# Altium integrated library NSC Interface.IntLib: 481 symbols (part 13 of 16)
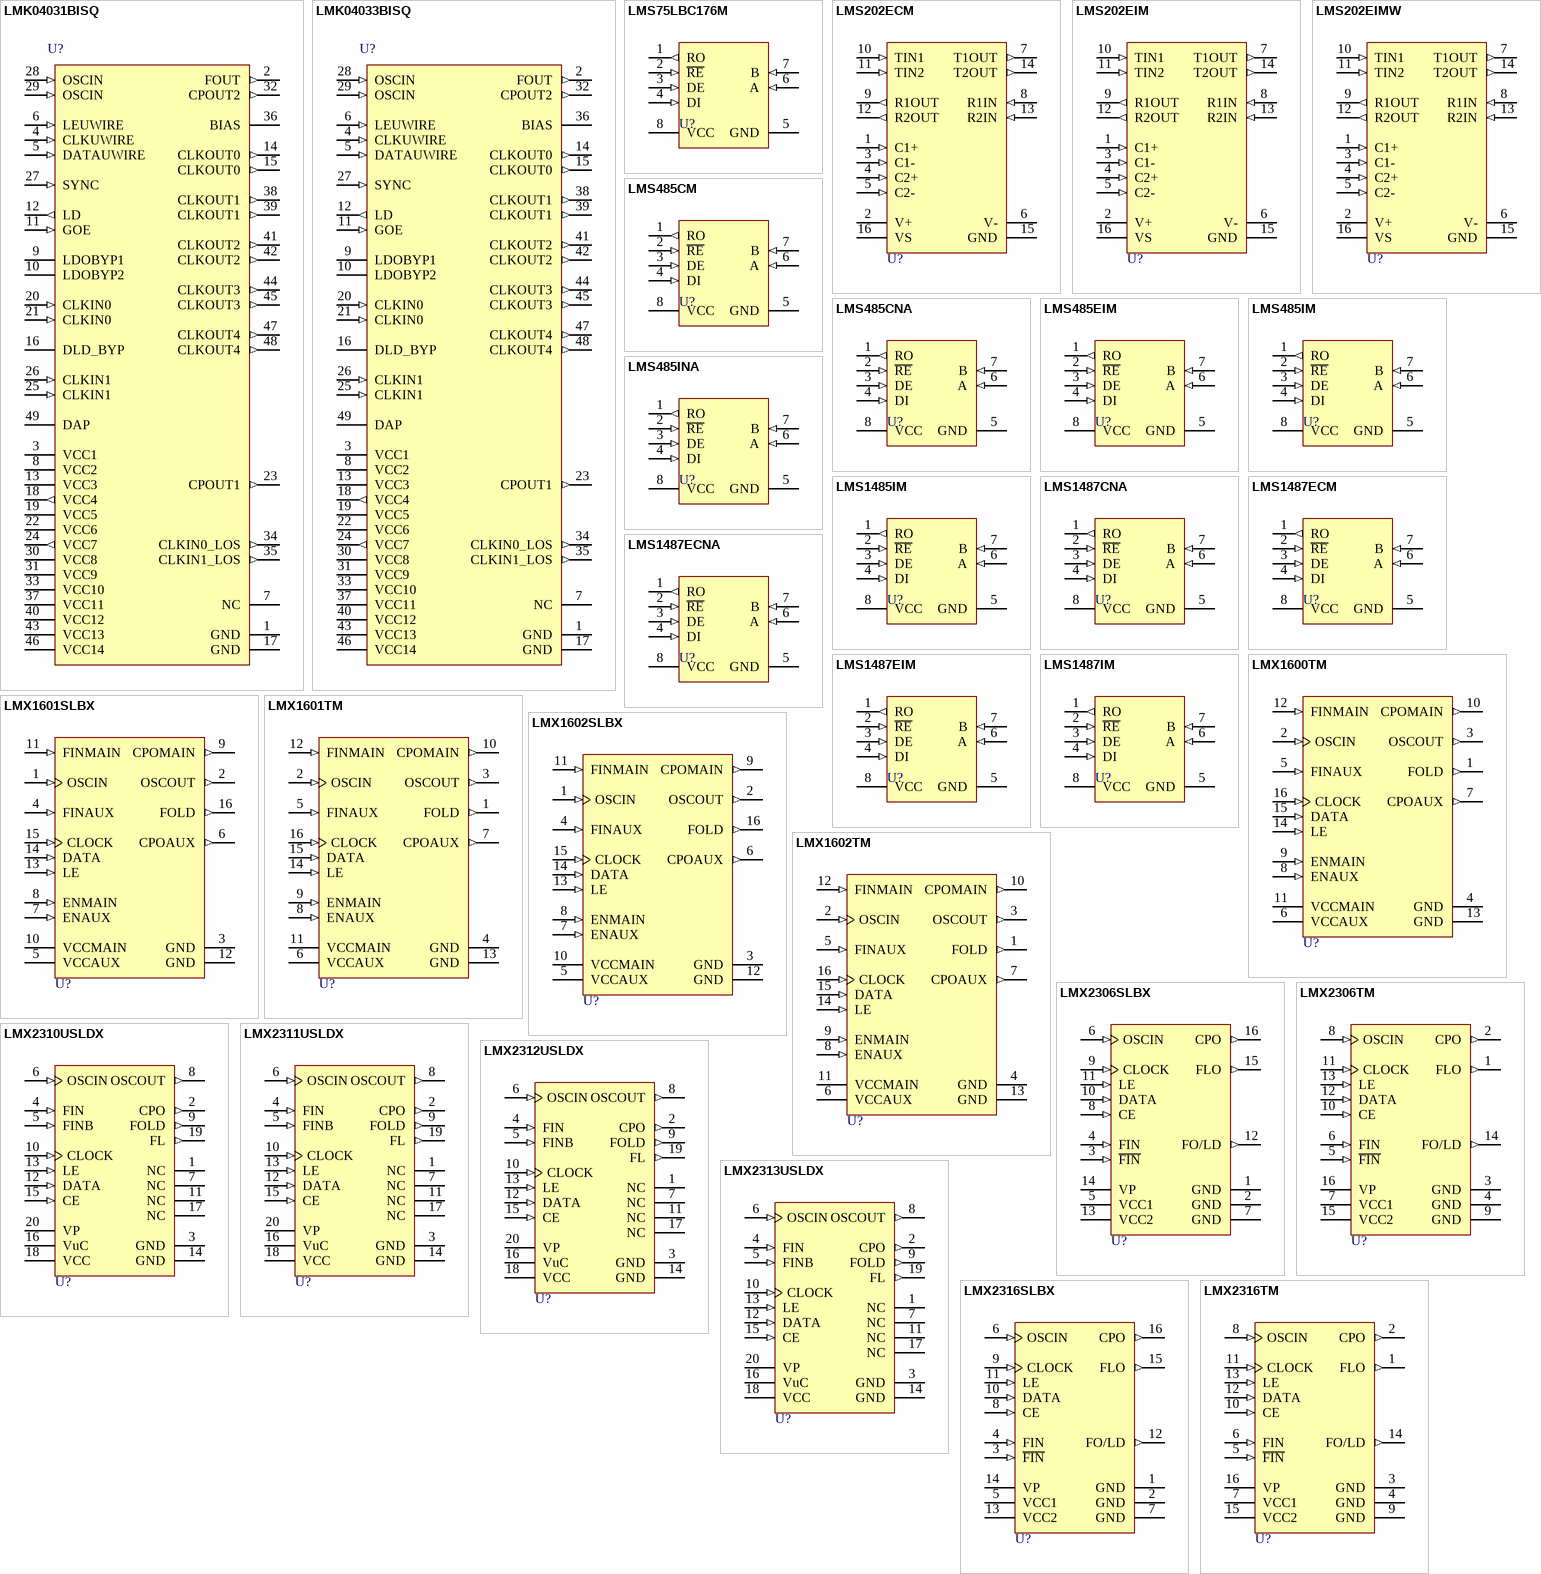
[diagram p52: symbols LMK04031BISQ to LMX2316TM]

## LMX1601SLBX
designator U?
1.1 GHz/500 MHz PLLatinum Low Cost Dual Frequency Synthesizer; PartNumber: LMX1601SLBX; Manufacturer: National Semiconductor; CompType: Interface IC; PackageTopMarking: NSXYTT*X1601*SLBDD; Published: 4-Dec-2008; DatasheetVersion: Jun-2005; PackageVersion: revB, Sep-1998; PackageReference: SLB16A; Publisher: Altium Limited; PackageDescription: CSP, Plastic, Laminated, 3.5 x 3.5 x 1.0mm Body, 16 Lead, 0.5mm Pitch; RoHS: O; PinCount: 16; DigiKeyPartNumber: LMX1601SLBXTR-ND; Code_JEDEC: MO-208-CCE; ComponentLink1Description: LMX1601 Datasheet; ComponentLink1URL: http://www.national.com/ds/LM/LMX1601.pdf; ComponentLink2Description: LMX1601 Web Page; ComponentLink2URL: http://www.national.com/pf/LM/LMX1601.html; ComponentLink3Description: SLB16A Package Page; ComponentLink3URL: http://www.national.com/packaging/folders/slb16a.html
footprint SLB16A (PQFN, 16-Leads, Body 3.5x3.5mm, Pitch 0.5mm, NSC Recommended)
pins: 1 OSCIN (in), 2 OSCOUT (out), 3 GND (power), 4 FINAUX (in), 5 VCCAUX (power), 6 CPOAUX (out), 7 ENAUX (in), 8 ENMAIN (in), 9 CPOMAIN (out), 10 VCCMAIN (power), 11 FINMAIN (in), 12 GND (power), 13 LE (in), 14 DATA (in), 15 CLOCK (in), 16 FOLD (out)

## LMX1601TM
designator U?
1.1 GHz/500 MHz PLLatinum Low Cost Dual Frequency Synthesizer; PartNumber: LMX1601TM; Manufacturer: National Semiconductor; CompType: Interface IC; PackageTopMarking: NSUZXYTT*LMX1601*TMDD; Published: 4-Dec-2008; DatasheetVersion: Jun-2005; PackageVersion: revD, Jun-2003; PackageReference: MTC16; Publisher: Altium Limited; PackageDescription: Molded TSSOP, Jedec, 5 x 4.4 x 0.9mm Body, 16 Lead, 0.65mm Pitch; RoHS: O; PinCount: 16; DigiKeyPartNumber: LMX1601TM-ND; Code_JEDEC: MO-153-AB; ComponentLink1Description: LMX1601 Datasheet; ComponentLink1URL: http://www.national.com/ds/LM/LMX1601.pdf; ComponentLink2Description: LMX1601 Web Page; ComponentLink2URL: http://www.national.com/pf/LM/LMX1601.html; ComponentLink3Description: MTC16 Package Page; ComponentLink3URL: http://www.national.com/packaging/folders/mtc16.html
footprint MTC16_N (TSOP, 16-Leads, Body 5x4.4mm, Pitch 0.65mm, IPC Medium Density)
footprint MTC16_L (TSOP, 16-Leads, Body 5x4.4mm, Pitch 0.65mm, IPC High Density)
footprint MTC16_M (TSOP, 16-Leads, Body 5x4.4mm, Pitch 0.65mm, IPC Low Density)
pins: 1 FOLD (out), 2 OSCIN (in), 3 OSCOUT (out), 4 GND (power), 5 FINAUX (in), 6 VCCAUX (power), 7 CPOAUX (out), 8 ENAUX (in), 9 ENMAIN (in), 10 CPOMAIN (out), 11 VCCMAIN (power), 12 FINMAIN (in), 13 GND (power), 14 LE (in), 15 DATA (in), 16 CLOCK (in)

## LMX1602SLBX
designator U?
1.1 GHz/1.1 GHz PLLatinum Low Cost Dual Frequency Synthesizer; PartNumber: LMX1602SLBX; Manufacturer: National Semiconductor; CompType: Interface IC; PackageTopMarking: NSXYTT*X1602*SLBDD; Published: 4-Dec-2008; DatasheetVersion: Jun-2005; PackageVersion: revB, Sep-1998; PackageReference: SLB16A; Publisher: Altium Limited; PackageDescription: CSP, Plastic, Laminated, 3.5 x 3.5 x 1.0mm Body, 16 Lead, 0.5mm Pitch; RoHS: O; PinCount: 16; DigiKeyPartNumber: LMX1602SLBX-ND; Code_JEDEC: MO-208-CCE; ComponentLink1Description: LMX1602 Datasheet; ComponentLink1URL: http://www.national.com/ds/LM/LMX1602.pdf; ComponentLink2Description: LMX1602 Web Page; ComponentLink2URL: http://www.national.com/pf/LM/LMX1602.html; ComponentLink3Description: SLB16A Package Page; ComponentLink3URL: http://www.national.com/packaging/folders/slb16a.html
footprint SLB16A (PQFN, 16-Leads, Body 3.5x3.5mm, Pitch 0.5mm, NSC Recommended)
pins: 1 OSCIN (in), 2 OSCOUT (out), 3 GND (power), 4 FINAUX (in), 5 VCCAUX (power), 6 CPOAUX (out), 7 ENAUX (in), 8 ENMAIN (in), 9 CPOMAIN (out), 10 VCCMAIN (power), 11 FINMAIN (in), 12 GND (power), 13 LE (in), 14 DATA (in), 15 CLOCK (in), 16 FOLD (out)

## LMX1602TM
designator U?
1.1 GHz/1.1 GHz PLLatinum Low Cost Dual Frequency Synthesizer; PartNumber: LMX1602TM; Manufacturer: National Semiconductor; CompType: Interface IC; PackageTopMarking: NSUZXYTT*LMX1602*TMDD; Published: 4-Dec-2008; DatasheetVersion: Jun-2005; PackageVersion: revD, Jun-2003; PackageReference: MTC16; Publisher: Altium Limited; PackageDescription: Molded TSSOP, Jedec, 5 x 4.4 x 0.9mm Body, 16 Lead, 0.65mm Pitch; RoHS: Y; PinCount: 16; DigiKeyPartNumber: LMX1602TM-ND; Code_JEDEC: MO-153-AB; ComponentLink1Description: LMX1602 Datasheet; ComponentLink1URL: http://www.national.com/ds/LM/LMX1602.pdf; ComponentLink2Description: LMX1602 Web Page; ComponentLink2URL: http://www.national.com/pf/LM/LMX1602.html; ComponentLink3Description: MTC16 Package Page; ComponentLink3URL: http://www.national.com/packaging/folders/mtc16.html
footprint MTC16_N (TSOP, 16-Leads, Body 5x4.4mm, Pitch 0.65mm, IPC Medium Density)
footprint MTC16_L (TSOP, 16-Leads, Body 5x4.4mm, Pitch 0.65mm, IPC High Density)
footprint MTC16_M (TSOP, 16-Leads, Body 5x4.4mm, Pitch 0.65mm, IPC Low Density)
pins: 1 FOLD (out), 2 OSCIN (in), 3 OSCOUT (out), 4 GND (power), 5 FINAUX (in), 6 VCCAUX (power), 7 CPOAUX (out), 8 ENAUX (in), 9 ENMAIN (in), 10 CPOMAIN (out), 11 VCCMAIN (power), 12 FINMAIN (in), 13 GND (power), 14 LE (in), 15 DATA (in), 16 CLOCK (in)

## LMX2306SLBX
designator U?
550 MHz PLLatinum Low Power Frequency Synthesizer for RF Personal Communications; PartNumber: LMX2306SLBX; Manufacturer: National Semiconductor; CompType: Interface IC; PackageTopMarking: NSXYTT*X2306*SLBDD; Published: 4-Dec-2008; DatasheetVersion: Mar-2004; PackageVersion: revB, Sep-1998; PackageReference: SLB16A; Publisher: Altium Limited; PackageDescription: CSP, Plastic, Laminated, 3.5 x 3.5 x 1.0mm Body, 16 Lead, 0.5mm Pitch; RoHS: O; PinCount: 16; DigiKeyPartNumber: LMX2306SLBXTR-ND; Code_JEDEC: MO-208-CCE; ComponentLink1Description: LMX2306 Datasheet; ComponentLink1URL: http://www.national.com/ds/LM/LMX2306.pdf; ComponentLink2Description: LMX2306 Web Page; ComponentLink2URL: http://www.national.com/pf/LM/LMX2306.html; ComponentLink3Description: SLB16A Package Page; ComponentLink3URL: http://www.national.com/packaging/folders/slb16a.html
footprint SLB16A (PQFN, 16-Leads, Body 3.5x3.5mm, Pitch 0.5mm, NSC Recommended)
pins: 1 GND (power), 2 GND (power), 3 ~{FIN} (in), 4 FIN (in), 5 VCC1 (power), 6 OSCIN (in), 7 GND (power), 8 CE (in), 9 CLOCK (in), 10 DATA (in), 11 LE (in), 12 FO/LD (out), 13 VCC2 (power), 14 VP (power), 15 FLO (out), 16 CPO (out)

## LMX2306TM
designator U?
550 MHz PLLatinum Low Power Frequency Synthesizer for RF Personal Communications; PartNumber: LMX2306TM; Manufacturer: National Semiconductor; CompType: Interface IC; PackageTopMarking: NSUZXYTT*LMX2306*TMDD; Published: 4-Dec-2008; DatasheetVersion: Mar-2004; PackageVersion: revD, Jun-2003; PackageReference: MTC16; Publisher: Altium Limited; PackageDescription: Molded TSSOP, Jedec, 5 x 4.4 x 0.9mm Body, 16 Lead, 0.65mm Pitch; RoHS: O; PinCount: 16; DigiKeyPartNumber: LMX2306TM-ND; Code_JEDEC: MO-153-AB; ComponentLink1Description: LMX2306 Datasheet; ComponentLink1URL: http://www.national.com/ds/LM/LMX2306.pdf; ComponentLink2Description: LMX2306 Web Page; ComponentLink2URL: http://www.national.com/pf/LM/LMX2306.html; ComponentLink3Description: MTC16 Package Page; ComponentLink3URL: http://www.national.com/packaging/folders/mtc16.html
footprint MTC16_N (TSOP, 16-Leads, Body 5x4.4mm, Pitch 0.65mm, IPC Medium Density)
footprint MTC16_L (TSOP, 16-Leads, Body 5x4.4mm, Pitch 0.65mm, IPC High Density)
footprint MTC16_M (TSOP, 16-Leads, Body 5x4.4mm, Pitch 0.65mm, IPC Low Density)
pins: 1 FLO (out), 2 CPO (out), 3 GND (power), 4 GND (power), 5 ~{FIN} (in), 6 FIN (in), 7 VCC1 (power), 8 OSCIN (in), 9 GND (power), 10 CE (in), 11 CLOCK (in), 12 DATA (in), 13 LE (in), 14 FO/LD (out), 15 VCC2 (power), 16 VP (power)

## LMX2310USLDX
designator U?
2.5 GHz PLLatinum Ultra Low Power Frequency Synthesizer for RF Personal Communications; PartNumber: LMX2310USLDX; Manufacturer: National Semiconductor; CompType: Interface IC; PackageTopMarking: NSXYTT*X2310U*SLDDD; Published: 4-Dec-2008; DatasheetVersion: Dec-2003; PackageVersion: revA, Jun-2001; PackageReference: SLD20A; Publisher: Altium Limited; PackageDescription: Thin CSP, Plastic, Laminated, 3.5 x 3.5 x 0.8mm Body, 20 Lead, .5mm Pitch; RoHS: Y; PinCount: 20; DigiKeyPartNumber: LMX2310USLDXTR-ND; Code_JEDEC: MO-208-CCEA-1; ComponentLink1Description: LMX2310U Datasheet; ComponentLink1URL: http://www.national.com/ds/LM/LMX2310U.pdf; ComponentLink2Description: LMX2310U Web Page; ComponentLink2URL: http://www.national.com/pf/LM/LMX2310U.html; ComponentLink3Description: SLD20A Package Page; ComponentLink3URL: http://www.national.com/packaging/folders/sld20a.html
footprint SLD20A (PQFN, 20-Leads, Body 3.5x3.5mm, Pitch 0.5mm, NSC Recommended)
pins: 1 NC, 2 CPO (out), 3 GND (power), 4 FIN (in), 5 FINB (in), 6 OSCIN (in), 7 NC, 8 OSCOUT (out), 9 FOLD (out), 10 CLOCK (in), 11 NC, 12 DATA (in), 13 LE (in), 14 GND (power), 15 CE (in), 16 VuC (power), 17 NC, 18 VCC (power), 19 FL (out), 20 VP (power)

## LMX2311USLDX
designator U?
2.0 GHz PLLatinum Ultra Low Power Frequency Synthesizer for RF Personal Communications; PartNumber: LMX2311USLDX; Manufacturer: National Semiconductor; CompType: Interface IC; PackageTopMarking: NSXYTT*X2311U*SLDDD; Published: 4-Dec-2008; DatasheetVersion: Dec-2003; PackageVersion: revA, Jun-2001; PackageReference: SLD20A; Publisher: Altium Limited; PackageDescription: Thin CSP, Plastic, Laminated, 3.5 x 3.5 x 0.8mm Body, 20 Lead, .5mm Pitch; RoHS: O; PinCount: 20; DigiKeyPartNumber: LMX2311USLDXTR-ND; Code_JEDEC: MO-208-CCEA-1; ComponentLink1Description: LMX2311U Datasheet; ComponentLink1URL: http://www.national.com/ds/LM/LMX2311U.pdf; ComponentLink2Description: LMX2311U Web Page; ComponentLink2URL: http://www.national.com/pf/LM/LMX2311U.html; ComponentLink3Description: SLD20A Package Page; ComponentLink3URL: http://www.national.com/packaging/folders/sld20a.html
footprint SLD20A (PQFN, 20-Leads, Body 3.5x3.5mm, Pitch 0.5mm, NSC Recommended)
pins: 1 NC, 2 CPO (out), 3 GND (power), 4 FIN (in), 5 FINB (in), 6 OSCIN (in), 7 NC, 8 OSCOUT (out), 9 FOLD (out), 10 CLOCK (in), 11 NC, 12 DATA (in), 13 LE (in), 14 GND (power), 15 CE (in), 16 VuC (power), 17 NC, 18 VCC (power), 19 FL (out), 20 VP (power)

## LMX2312USLDX
designator U?
1.2 GHz PLLatinum Ultra Low Power Frequency Synthesizer for RF Personal Communications; PartNumber: LMX2312USLDX; Manufacturer: National Semiconductor; CompType: Interface IC; PackageTopMarking: NSXYTT*X2312U*SLDDD; Published: 4-Dec-2008; DatasheetVersion: Dec-2003; PackageVersion: revA, Jun-2001; PackageReference: SLD20A; Publisher: Altium Limited; PackageDescription: Thin CSP, Plastic, Laminated, 3.5 x 3.5 x 0.8mm Body, 20 Lead, .5mm Pitch; RoHS: O; PinCount: 20; DigiKeyPartNumber: LMX2312USLDXTR-ND; Code_JEDEC: MO-208-CCEA-1; ComponentLink1Description: LMX2312U Datasheet; ComponentLink1URL: http://www.national.com/ds/LM/LMX2312U.pdf; ComponentLink2Description: LMX2312U Web Page; ComponentLink2URL: http://www.national.com/pf/LM/LMX2312U.html; ComponentLink3Description: SLD20A Package Page; ComponentLink3URL: http://www.national.com/packaging/folders/sld20a.html
footprint SLD20A (PQFN, 20-Leads, Body 3.5x3.5mm, Pitch 0.5mm, NSC Recommended)
pins: 1 NC, 2 CPO (out), 3 GND (power), 4 FIN (in), 5 FINB (in), 6 OSCIN (in), 7 NC, 8 OSCOUT (out), 9 FOLD (out), 10 CLOCK (in), 11 NC, 12 DATA (in), 13 LE (in), 14 GND (power), 15 CE (in), 16 VuC (power), 17 NC, 18 VCC (power), 19 FL (out), 20 VP (power)

## LMX2313USLDX
designator U?
600 MHz PLLatinum Ultra Low Power Frequency Synthesizer for RF Personal Communications; PartNumber: LMX2313USLDX; Manufacturer: National Semiconductor; CompType: Interface IC; PackageTopMarking: NSXYTT*X2313U*SLDDD; Published: 4-Dec-2008; DatasheetVersion: Dec-2003; PackageVersion: revA, Jun-2001; PackageReference: SLD20A; Publisher: Altium Limited; PackageDescription: Thin CSP, Plastic, Laminated, 3.5 x 3.5 x 0.8mm Body, 20 Lead, .5mm Pitch; RoHS: O; PinCount: 20; DigiKeyPartNumber: LMX2313USLDXTR-ND; Code_JEDEC: MO-208-CCEA-1; ComponentLink1Description: LMX2313U Datasheet; ComponentLink1URL: http://www.national.com/ds/LM/LMX2313U.pdf; ComponentLink2Description: LMX2313U Web Page; ComponentLink2URL: http://www.national.com/pf/LM/LMX2313U.html; ComponentLink3Description: SLD20A Package Page; ComponentLink3URL: http://www.national.com/packaging/folders/sld20a.html
footprint SLD20A (PQFN, 20-Leads, Body 3.5x3.5mm, Pitch 0.5mm, NSC Recommended)
pins: 1 NC, 2 CPO (out), 3 GND (power), 4 FIN (in), 5 FINB (in), 6 OSCIN (in), 7 NC, 8 OSCOUT (out), 9 FOLD (out), 10 CLOCK (in), 11 NC, 12 DATA (in), 13 LE (in), 14 GND (power), 15 CE (in), 16 VuC (power), 17 NC, 18 VCC (power), 19 FL (out), 20 VP (power)

## LMX2316SLBX
designator U?
1.2 GHz PLLatinum Low Power Frequency Synthesizer for RF Personal Communications; PartNumber: LMX2316SLBX; Manufacturer: National Semiconductor; CompType: Interface IC; PackageTopMarking: NSXYTT*X2316*SLBDD; Published: 4-Dec-2008; DatasheetVersion: Mar-2004; PackageVersion: revB, Sep-1998; PackageReference: SLB16A; Publisher: Altium Limited; PackageDescription: CSP, Plastic, Laminated, 3.5 x 3.5 x 1.0mm Body, 16 Lead, 0.5mm Pitch; RoHS: O; PinCount: 16; DigiKeyPartNumber: LMX2316SLBXTR-ND; Code_JEDEC: MO-208-CCE; ComponentLink1Description: LMX2316 Datasheet; ComponentLink1URL: http://www.national.com/ds/LM/LMX2316.pdf; ComponentLink2Description: LMX2316 Web Page; ComponentLink2URL: http://www.national.com/pf/LM/LMX2316.html; ComponentLink3Description: SLB16A Package Page; ComponentLink3URL: http://www.national.com/packaging/folders/slb16a.html
footprint SLB16A (PQFN, 16-Leads, Body 3.5x3.5mm, Pitch 0.5mm, NSC Recommended)
pins: 1 GND (power), 2 GND (power), 3 ~{FIN} (in), 4 FIN (in), 5 VCC1 (power), 6 OSCIN (in), 7 GND (power), 8 CE (in), 9 CLOCK (in), 10 DATA (in), 11 LE (in), 12 FO/LD (out), 13 VCC2 (power), 14 VP (power), 15 FLO (out), 16 CPO (out)

## LMX2316TM
designator U?
1.2 GHz PLLatinum Low Power Frequency Synthesizer for RF Personal Communications; PartNumber: LMX2316TM; Manufacturer: National Semiconductor; CompType: Interface IC; PackageTopMarking: NSUZXYTT*LMX2316*TMDD; Published: 4-Dec-2008; DatasheetVersion: Mar-2004; PackageVersion: revD, Jun-2003; PackageReference: MTC16; Publisher: Altium Limited; PackageDescription: Molded TSSOP, Jedec, 5 x 4.4 x 0.9mm Body, 16 Lead, 0.65mm Pitch; RoHS: O; PinCount: 16; DigiKeyPartNumber: LMX2316TM-ND; Code_JEDEC: MO-153-AB; ComponentLink1Description: LMX2316 Datasheet; ComponentLink1URL: http://www.national.com/ds/LM/LMX2316.pdf; ComponentLink2Description: LMX2316 Web Page; ComponentLink2URL: http://www.national.com/pf/LM/LMX2316.html; ComponentLink3Description: MTC16 Package Page; ComponentLink3URL: http://www.national.com/packaging/folders/mtc16.html
footprint MTC16_N (TSOP, 16-Leads, Body 5x4.4mm, Pitch 0.65mm, IPC Medium Density)
footprint MTC16_L (TSOP, 16-Leads, Body 5x4.4mm, Pitch 0.65mm, IPC High Density)
footprint MTC16_M (TSOP, 16-Leads, Body 5x4.4mm, Pitch 0.65mm, IPC Low Density)
pins: 1 FLO (out), 2 CPO (out), 3 GND (power), 4 GND (power), 5 ~{FIN} (in), 6 FIN (in), 7 VCC1 (power), 8 OSCIN (in), 9 GND (power), 10 CE (in), 11 CLOCK (in), 12 DATA (in), 13 LE (in), 14 FO/LD (out), 15 VCC2 (power), 16 VP (power)

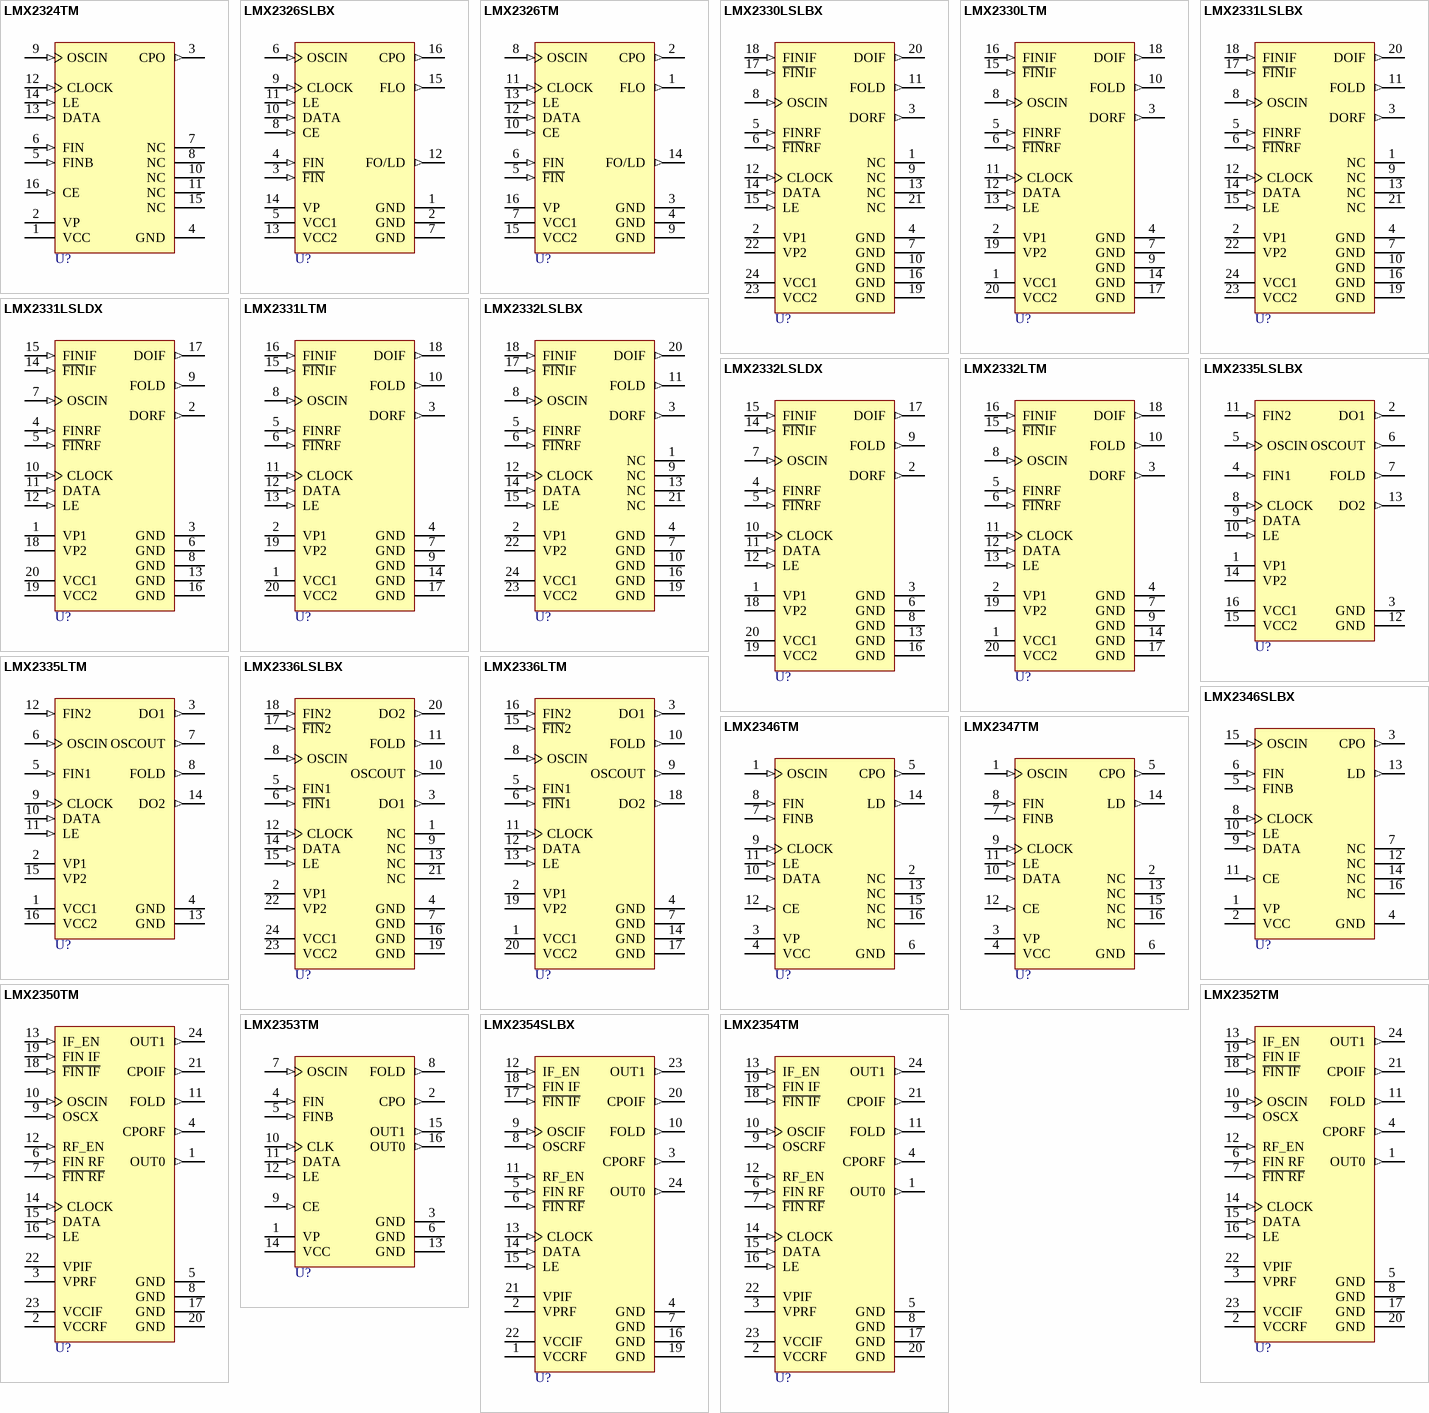
[diagram p33: symbols LMX2324TM to LMX2354TM]

## LMX2324TM
designator U?
PLLatinum 2.0 GHz Frequency Synthesizer for RF Personal Communications; PartNumber: LMX2324TM; Manufacturer: National Semiconductor; CompType: Interface IC; PackageTopMarking: NSUZXYTT*LMX2324*TMDD; Published: 4-Dec-2008; DatasheetVersion: Mar-2001; PackageVersion: revD, Jun-2003; PackageReference: MTC16; Publisher: Altium Limited; PackageDescription: Molded TSSOP, Jedec, 5 x 4.4 x 0.9mm Body, 16 Lead, 0.65mm Pitch; RoHS: Y; PinCount: 16; DigiKeyPartNumber: LMX2324TM-ND; Code_JEDEC: MO-153-AB; ComponentLink1Description: LMX2324 Datasheet; ComponentLink1URL: http://www.national.com/ds/LM/LMX2324.pdf; ComponentLink2Description: LMX2324 Web Page; ComponentLink2URL: http://www.national.com/pf/LM/LMX2324.html; ComponentLink3Description: MTC16 Package Page; ComponentLink3URL: http://www.national.com/packaging/folders/mtc16.html
footprint MTC16_N (TSOP, 16-Leads, Body 5x4.4mm, Pitch 0.65mm, IPC Medium Density)
footprint MTC16_L (TSOP, 16-Leads, Body 5x4.4mm, Pitch 0.65mm, IPC High Density)
footprint MTC16_M (TSOP, 16-Leads, Body 5x4.4mm, Pitch 0.65mm, IPC Low Density)
pins: 1 VCC (power), 2 VP (power), 3 CPO (out), 4 GND (power), 5 FINB (in), 6 FIN (in), 7 NC, 8 NC, 9 OSCIN (in), 10 NC, 11 NC, 12 CLOCK (in), 13 DATA (in), 14 LE (in), 15 NC, 16 CE (in)

## LMX2326SLBX
designator U?
2.8 GHz PLLatinum Low Power Frequency Synthesizer for RF Personal Communications; PartNumber: LMX2326SLBX; Manufacturer: National Semiconductor; CompType: Interface IC; PackageTopMarking: NSXYTT*X2326*SLBDD; Published: 4-Dec-2008; DatasheetVersion: Mar-2004; PackageVersion: revB, Sep-1998; PackageReference: SLB16A; Publisher: Altium Limited; PackageDescription: CSP, Plastic, Laminated, 3.5 x 3.5 x 1.0mm Body, 16 Lead, 0.5mm Pitch; RoHS: O; PinCount: 16; DigiKeyPartNumber: LMX2326SLBXTR-ND; Code_JEDEC: MO-208-CCE; ComponentLink1Description: LMX2326 Datasheet; ComponentLink1URL: http://www.national.com/ds/LM/LMX2326.pdf; ComponentLink2Description: LMX2326 Web Page; ComponentLink2URL: http://www.national.com/pf/LM/LMX2326.html; ComponentLink3Description: SLB16A Package Page; ComponentLink3URL: http://www.national.com/packaging/folders/slb16a.html
footprint SLB16A (PQFN, 16-Leads, Body 3.5x3.5mm, Pitch 0.5mm, NSC Recommended)
pins: 1 GND (power), 2 GND (power), 3 ~{FIN} (in), 4 FIN (in), 5 VCC1 (power), 6 OSCIN (in), 7 GND (power), 8 CE (in), 9 CLOCK (in), 10 DATA (in), 11 LE (in), 12 FO/LD (out), 13 VCC2 (power), 14 VP (power), 15 FLO (out), 16 CPO (out)

## LMX2326TM
designator U?
2.8 GHz PLLatinum Low Power Frequency Synthesizer for RF Personal Communications; PartNumber: LMX2326TM; Manufacturer: National Semiconductor; CompType: Interface IC; PackageTopMarking: NSUZXYTT*LMX2326*TMDD; Published: 4-Dec-2008; DatasheetVersion: Mar-2004; PackageVersion: revD, Jun-2003; PackageReference: MTC16; Publisher: Altium Limited; PackageDescription: Molded TSSOP, Jedec, 5 x 4.4 x 0.9mm Body, 16 Lead, 0.65mm Pitch; RoHS: O; PinCount: 16; DigiKeyPartNumber: LMX2326TM-ND; Code_JEDEC: MO-153-AB; ComponentLink1Description: LMX2326 Datasheet; ComponentLink1URL: http://www.national.com/ds/LM/LMX2326.pdf; ComponentLink2Description: LMX2326 Web Page; ComponentLink2URL: http://www.national.com/pf/LM/LMX2326.html; ComponentLink3Description: MTC16 Package Page; ComponentLink3URL: http://www.national.com/packaging/folders/mtc16.html
footprint MTC16_N (TSOP, 16-Leads, Body 5x4.4mm, Pitch 0.65mm, IPC Medium Density)
footprint MTC16_L (TSOP, 16-Leads, Body 5x4.4mm, Pitch 0.65mm, IPC High Density)
footprint MTC16_M (TSOP, 16-Leads, Body 5x4.4mm, Pitch 0.65mm, IPC Low Density)
pins: 1 FLO (out), 2 CPO (out), 3 GND (power), 4 GND (power), 5 ~{FIN} (in), 6 FIN (in), 7 VCC1 (power), 8 OSCIN (in), 9 GND (power), 10 CE (in), 11 CLOCK (in), 12 DATA (in), 13 LE (in), 14 FO/LD (out), 15 VCC2 (power), 16 VP (power)

## LMX2330LSLBX
designator U?
2.5 GHz/510 MHz PLLatinum Low Power Dual Frequency Synthesizer for RF Personal Communications; PartNumber: LMX2330LSLBX; Manufacturer: National Semiconductor; CompType: Interface IC; PackageTopMarking: NSUZXYTT*LMX2330*LSLBDD; Published: 4-Dec-2008; DatasheetVersion: Oct-2001; PackageVersion: revC, Oct-1998; PackageReference: SLB24A; Publisher: Altium Limited; PackageDescription: CSP, Plastic, Laminated, 3.5 x 4.5 x 1.0mm Body, 24 Lead, 0.5mm Pitch; RoHS: O; PinCount: 24; DigiKeyPartNumber: LMX2330LSLBX-ND; ComponentLink1Description: LMX2330L Datasheet; ComponentLink1URL: http://www.national.com/ds/LM/LMX2330L.pdf; ComponentLink2Description: LMX2330L Web Page; ComponentLink2URL: http://www.national.com/pf/LM/LMX2330L.html; ComponentLink3Description: SLB24A Package Page; ComponentLink3URL: http://www.national.com/packaging/folders/slb24a.html
footprint SLB24A (PQFN, 24-Leads (9x3 pads), Body 3.5x4.5mm, Pitch 0.5mm, NSC Recommended)
pins: 1 NC, 2 VP1 (power), 3 DORF (out), 4 GND (power), 5 FINRF (in), 6 ~{FIN}RF (in), 7 GND (power), 8 OSCIN (in), 9 NC, 10 GND (power), 11 FOLD (out), 12 CLOCK (in), 13 NC, 14 DATA (in), 15 LE (in), 16 GND (power), 17 ~{FIN}IF (in), 18 FINIF (in), 19 GND (power), 20 DOIF (out), 21 NC, 22 VP2 (power), 23 VCC2 (power), 24 VCC1 (power)

## LMX2330LTM
designator U?
2.5 GHz/510 MHz PLLatinum Low Power Dual Frequency Synthesizer for RF Personal Communications; PartNumber: LMX2330LTM; Manufacturer: National Semiconductor; CompType: Interface IC; PackageTopMarking: NSUZXYTT*LMX2330*LTMDD; Published: 4-Dec-2008; DatasheetVersion: Oct-2001; PackageVersion: revE, Mar-2003; PackageReference: MTC20; Publisher: Altium Limited; PackageDescription: Molded TSSOP, Jedec, 6.5 x 4.4 x 0.9mm body, 20 Lead, 0.65mm Pitch; RoHS: Y; PinCount: 20; DigiKeyPartNumber: LMX2330LTM-ND; Code_JEDEC: MO-153-AC; ComponentLink1Description: LMX2330L Datasheet; ComponentLink1URL: http://www.national.com/ds/LM/LMX2330L.pdf; ComponentLink2Description: LMX2330L Web Page; ComponentLink2URL: http://www.national.com/pf/LM/LMX2330L.html; ComponentLink3Description: MTC20 Package Page; ComponentLink3URL: http://www.national.com/packaging/folders/mtc20.html
footprint MTC20_N (TSOP, 20-Leads, Body 6.5x4.4mm, Pitch 0.65mm, IPC Medium Density)
footprint MTC20_L (TSOP, 20-Leads, Body 6.5x4.4mm, Pitch 0.65mm, IPC High Density)
footprint MTC20_M (TSOP, 20-Leads, Body 6.5x4.4mm, Pitch 0.65mm, IPC Low Density)
pins: 1 VCC1 (power), 2 VP1 (power), 3 DORF (out), 4 GND (power), 5 FINRF (in), 6 ~{FIN}RF (in), 7 GND (power), 8 OSCIN (in), 9 GND (power), 10 FOLD (out), 11 CLOCK (in), 12 DATA (in), 13 LE (in), 14 GND (power), 15 ~{FIN}IF (in), 16 FINIF (in), 17 GND (power), 18 DOIF (out), 19 VP2 (power), 20 VCC2 (power)

## LMX2331LSLBX
designator U?
2.0 GHz/510 MHz PLLatinum Low Power Dual Frequency Synthesizer for RF Personal Communications; PartNumber: LMX2331LSLBX; Manufacturer: National Semiconductor; CompType: Interface IC; PackageTopMarking: NSUZXYTT*LMX2331*LSLBDD; Published: 4-Dec-2008; DatasheetVersion: Oct-2001; PackageVersion: revC, Oct-1998; PackageReference: SLB24A; Publisher: Altium Limited; PackageDescription: CSP, Plastic, Laminated, 3.5 x 4.5 x 1.0mm Body, 24 Lead, 0.5mm Pitch; RoHS: O; PinCount: 24; DigiKeyPartNumber: LMX2331LSLBX-ND; ComponentLink1Description: LMX2331L Datasheet; ComponentLink1URL: http://www.national.com/ds/LM/LMX2331L.pdf; ComponentLink2Description: LMX2331L Web Page; ComponentLink2URL: http://www.national.com/pf/LM/LMX2331L.html; ComponentLink3Description: SLB24A Package Page; ComponentLink3URL: http://www.national.com/packaging/folders/slb24a.html
footprint SLB24A (PQFN, 24-Leads (9x3 pads), Body 3.5x4.5mm, Pitch 0.5mm, NSC Recommended)
pins: 1 NC, 2 VP1 (power), 3 DORF (out), 4 GND (power), 5 FINRF (in), 6 ~{FIN}RF (in), 7 GND (power), 8 OSCIN (in), 9 NC, 10 GND (power), 11 FOLD (out), 12 CLOCK (in), 13 NC, 14 DATA (in), 15 LE (in), 16 GND (power), 17 ~{FIN}IF (in), 18 FINIF (in), 19 GND (power), 20 DOIF (out), 21 NC, 22 VP2 (power), 23 VCC2 (power), 24 VCC1 (power)

## LMX2331LSLDX
designator U?
2.0 GHz/510 MHz PLLatinum Low Power Dual Frequency Synthesizer for RF Personal Communications; PartNumber: LMX2331LSLDX; Manufacturer: National Semiconductor; CompType: Interface IC; PackageTopMarking: NSXYTT*X2331L*SLDDD; Published: 4-Dec-2008; DatasheetVersion: Oct-2001; PackageVersion: revA, Jun-2001; PackageReference: SLD20A; Publisher: Altium Limited; PackageDescription: Thin CSP, Plastic, Laminated, 3.5 x 3.5 x 0.8mm Body, 20 Lead, .5mm Pitch; RoHS: O; PinCount: 20; Code_JEDEC: MO-208-CCEA-1; ComponentLink1Description: LMX2331L Datasheet; ComponentLink1URL: http://www.national.com/ds/LM/LMX2331L.pdf; ComponentLink2Description: LMX2331L Web Page; ComponentLink2URL: http://www.national.com/pf/LM/LMX2331L.html; ComponentLink3Description: SLD20A Package Page; ComponentLink3URL: http://www.national.com/packaging/folders/sld20a.html
footprint SLD20A (PQFN, 20-Leads, Body 3.5x3.5mm, Pitch 0.5mm, NSC Recommended)
pins: 1 VP1 (power), 2 DORF (out), 3 GND (power), 4 FINRF (in), 5 ~{FIN}RF (in), 6 GND (power), 7 OSCIN (in), 8 GND (power), 9 FOLD (out), 10 CLOCK (in), 11 DATA (in), 12 LE (in), 13 GND (power), 14 ~{FIN}IF (in), 15 FINIF (in), 16 GND (power), 17 DOIF (out), 18 VP2 (power), 19 VCC2 (power), 20 VCC1 (power)

## LMX2331LTM
designator U?
2.0 GHz/510 MHz PLLatinum Low Power Dual Frequency Synthesizer for RF Personal Communications; PartNumber: LMX2331LTM; Manufacturer: National Semiconductor; CompType: Interface IC; PackageTopMarking: NSUZXYTT*LMX2331*LTMDD; Published: 4-Dec-2008; DatasheetVersion: Oct-2001; PackageVersion: revE, Mar-2003; PackageReference: MTC20; Publisher: Altium Limited; PackageDescription: Molded TSSOP, Jedec, 6.5 x 4.4 x 0.9mm body, 20 Lead, 0.65mm Pitch; RoHS: Y; PinCount: 20; DigiKeyPartNumber: LMX2331LTM-ND; Code_JEDEC: MO-153-AC; ComponentLink1Description: LMX2331L Datasheet; ComponentLink1URL: http://www.national.com/ds/LM/LMX2331L.pdf; ComponentLink2Description: LMX2331L Web Page; ComponentLink2URL: http://www.national.com/pf/LM/LMX2331L.html; ComponentLink3Description: MTC20 Package Page; ComponentLink3URL: http://www.national.com/packaging/folders/mtc20.html
footprint MTC20_N (TSOP, 20-Leads, Body 6.5x4.4mm, Pitch 0.65mm, IPC Medium Density)
footprint MTC20_L (TSOP, 20-Leads, Body 6.5x4.4mm, Pitch 0.65mm, IPC High Density)
footprint MTC20_M (TSOP, 20-Leads, Body 6.5x4.4mm, Pitch 0.65mm, IPC Low Density)
pins: 1 VCC1 (power), 2 VP1 (power), 3 DORF (out), 4 GND (power), 5 FINRF (in), 6 ~{FIN}RF (in), 7 GND (power), 8 OSCIN (in), 9 GND (power), 10 FOLD (out), 11 CLOCK (in), 12 DATA (in), 13 LE (in), 14 GND (power), 15 ~{FIN}IF (in), 16 FINIF (in), 17 GND (power), 18 DOIF (out), 19 VP2 (power), 20 VCC2 (power)

## LMX2332LSLBX
designator U?
1.2 GHz/510 MHz PLLatinum Low Power Dual Frequency Synthesizer for RF Personal Communications; PartNumber: LMX2332LSLBX; Manufacturer: National Semiconductor; CompType: Interface IC; PackageTopMarking: NSUZXYTT*LMX2332*LSLBDD; Published: 4-Dec-2008; DatasheetVersion: Oct-2001; PackageVersion: revC, Oct-1998; PackageReference: SLB24A; Publisher: Altium Limited; PackageDescription: CSP, Plastic, Laminated, 3.5 x 4.5 x 1.0mm Body, 24 Lead, 0.5mm Pitch; RoHS: O; PinCount: 24; DigiKeyPartNumber: LMX2332LSLBXTR-ND; ComponentLink1Description: LMX2332L Datasheet; ComponentLink1URL: http://www.national.com/ds/LM/LMX2332L.pdf; ComponentLink2Description: LMX2332L Web Page; ComponentLink2URL: http://www.national.com/pf/LM/LMX2332L.html; ComponentLink3Description: SLB24A Package Page; ComponentLink3URL: http://www.national.com/packaging/folders/slb24a.html
footprint SLB24A (PQFN, 24-Leads (9x3 pads), Body 3.5x4.5mm, Pitch 0.5mm, NSC Recommended)
pins: 1 NC, 2 VP1 (power), 3 DORF (out), 4 GND (power), 5 FINRF (in), 6 ~{FIN}RF (in), 7 GND (power), 8 OSCIN (in), 9 NC, 10 GND (power), 11 FOLD (out), 12 CLOCK (in), 13 NC, 14 DATA (in), 15 LE (in), 16 GND (power), 17 ~{FIN}IF (in), 18 FINIF (in), 19 GND (power), 20 DOIF (out), 21 NC, 22 VP2 (power), 23 VCC2 (power), 24 VCC1 (power)

## LMX2332LSLDX
designator U?
1.2 GHz/510 MHz PLLatinum Low Power Dual Frequency Synthesizer for RF Personal Communications; PartNumber: LMX2332LSLDX; Manufacturer: National Semiconductor; CompType: Interface IC; PackageTopMarking: NSXYTT*X2332L*SLDDD; Published: 4-Dec-2008; DatasheetVersion: Oct-2001; PackageVersion: revA, Jun-2001; PackageReference: SLD20A; Publisher: Altium Limited; PackageDescription: Thin CSP, Plastic, Laminated, 3.5 x 3.5 x 0.8mm Body, 20 Lead, .5mm Pitch; RoHS: O; PinCount: 20; Code_JEDEC: MO-208-CCEA-1; ComponentLink1Description: LMX2332L Datasheet; ComponentLink1URL: http://www.national.com/ds/LM/LMX2332L.pdf; ComponentLink2Description: LMX2332L Web Page; ComponentLink2URL: http://www.national.com/pf/LM/LMX2332L.html; ComponentLink3Description: SLD20A Package Page; ComponentLink3URL: http://www.national.com/packaging/folders/sld20a.html
footprint SLD20A (PQFN, 20-Leads, Body 3.5x3.5mm, Pitch 0.5mm, NSC Recommended)
pins: 1 VP1 (power), 2 DORF (out), 3 GND (power), 4 FINRF (in), 5 ~{FIN}RF (in), 6 GND (power), 7 OSCIN (in), 8 GND (power), 9 FOLD (out), 10 CLOCK (in), 11 DATA (in), 12 LE (in), 13 GND (power), 14 ~{FIN}IF (in), 15 FINIF (in), 16 GND (power), 17 DOIF (out), 18 VP2 (power), 19 VCC2 (power), 20 VCC1 (power)

## LMX2332LTM
designator U?
1.2 GHz/510 MHz PLLatinum Low Power Dual Frequency Synthesizer for RF Personal Communications; PartNumber: LMX2332LTM; Manufacturer: National Semiconductor; CompType: Interface IC; PackageTopMarking: NSUZXYTT*LMX2332*LTMDD; Published: 4-Dec-2008; DatasheetVersion: Oct-2001; PackageVersion: revE, Mar-2003; PackageReference: MTC20; Publisher: Altium Limited; PackageDescription: Molded TSSOP, Jedec, 6.5 x 4.4 x 0.9mm body, 20 Lead, 0.65mm Pitch; RoHS: O; PinCount: 20; DigiKeyPartNumber: LMX2332LTM-ND; Code_JEDEC: MO-153-AC; ComponentLink1Description: LMX2332L Datasheet; ComponentLink1URL: http://www.national.com/ds/LM/LMX2332L.pdf; ComponentLink2Description: LMX2332L Web Page; ComponentLink2URL: http://www.national.com/pf/LM/LMX2332L.html; ComponentLink3Description: MTC20 Package Page; ComponentLink3URL: http://www.national.com/packaging/folders/mtc20.html
footprint MTC20_N (TSOP, 20-Leads, Body 6.5x4.4mm, Pitch 0.65mm, IPC Medium Density)
footprint MTC20_L (TSOP, 20-Leads, Body 6.5x4.4mm, Pitch 0.65mm, IPC High Density)
footprint MTC20_M (TSOP, 20-Leads, Body 6.5x4.4mm, Pitch 0.65mm, IPC Low Density)
pins: 1 VCC1 (power), 2 VP1 (power), 3 DORF (out), 4 GND (power), 5 FINRF (in), 6 ~{FIN}RF (in), 7 GND (power), 8 OSCIN (in), 9 GND (power), 10 FOLD (out), 11 CLOCK (in), 12 DATA (in), 13 LE (in), 14 GND (power), 15 ~{FIN}IF (in), 16 FINIF (in), 17 GND (power), 18 DOIF (out), 19 VP2 (power), 20 VCC2 (power)

## LMX2335LSLBX
designator U?
PLLatinum Low Power Dual Frequency Synthesizer for RF Personal Communications; PartNumber: LMX2335LSLBX; Manufacturer: National Semiconductor; CompType: Interface IC; PackageTopMarking: NSXYTT*X2335L*SLBDD; Published: 4-Dec-2008; DatasheetVersion: Feb-2001; PackageVersion: revB, Sep-1998; PackageReference: SLB16A; Publisher: Altium Limited; PackageDescription: CSP, Plastic, Laminated, 3.5 x 3.5 x 1.0mm Body, 16 Lead, 0.5mm Pitch; RoHS: O; PinCount: 16; DigiKeyPartNumber: LMX2335LSLBX-ND; Code_JEDEC: MO-208-CCE; ComponentLink1Description: LMX2335L Datasheet; ComponentLink1URL: http://www.national.com/ds/LM/LMX2335L.pdf; ComponentLink2Description: LMX2335L Web Page; ComponentLink2URL: http://www.national.com/pf/LM/LMX2335L.html; ComponentLink3Description: SLB16A Package Page; ComponentLink3URL: http://www.national.com/packaging/folders/slb16a.html
footprint SLB16A (PQFN, 16-Leads, Body 3.5x3.5mm, Pitch 0.5mm, NSC Recommended)
pins: 1 VP1 (power), 2 DO1 (out), 3 GND (power), 4 FIN1 (in), 5 OSCIN (in), 6 OSCOUT (out), 7 FOLD (out), 8 CLOCK (in), 9 DATA (in), 10 LE (in), 11 FIN2 (in), 12 GND (power), 13 DO2 (out), 14 VP2 (power), 15 VCC2 (power), 16 VCC1 (power)

## LMX2335LTM
designator U?
PLLatinum Low Power Dual Frequency Synthesizer for RF Personal Communications; PartNumber: LMX2335LTM; Manufacturer: National Semiconductor; CompType: Interface IC; PackageTopMarking: NSUZXYTT*LMX2335*LTMDD; Published: 4-Dec-2008; DatasheetVersion: Feb-2001; PackageVersion: revD, Jun-2003; PackageReference: MTC16; Publisher: Altium Limited; PackageDescription: Molded TSSOP, Jedec, 5 x 4.4 x 0.9mm Body, 16 Lead, 0.65mm Pitch; RoHS: Y; PinCount: 16; DigiKeyPartNumber: LMX2335LTMXTR-ND; Code_JEDEC: MO-153-AB; ComponentLink1Description: LMX2335L Datasheet; ComponentLink1URL: http://www.national.com/ds/LM/LMX2335L.pdf; ComponentLink2Description: LMX2335L Web Page; ComponentLink2URL: http://www.national.com/pf/LM/LMX2335L.html; ComponentLink3Description: MTC16 Package Page; ComponentLink3URL: http://www.national.com/packaging/folders/mtc16.html
footprint MTC16_N (TSOP, 16-Leads, Body 5x4.4mm, Pitch 0.65mm, IPC Medium Density)
footprint MTC16_L (TSOP, 16-Leads, Body 5x4.4mm, Pitch 0.65mm, IPC High Density)
footprint MTC16_M (TSOP, 16-Leads, Body 5x4.4mm, Pitch 0.65mm, IPC Low Density)
pins: 1 VCC1 (power), 2 VP1 (power), 3 DO1 (out), 4 GND (power), 5 FIN1 (in), 6 OSCIN (in), 7 OSCOUT (out), 8 FOLD (out), 9 CLOCK (in), 10 DATA (in), 11 LE (in), 12 FIN2 (in), 13 GND (power), 14 DO2 (out), 15 VP2 (power), 16 VCC2 (power)

## LMX2336LSLBX
designator U?
PLLatinum Low Power Dual Frequency Synthesizer for RF Personal Communications; PartNumber: LMX2336LSLBX; Manufacturer: National Semiconductor; CompType: Interface IC; PackageTopMarking: NSUZXYTT*LMX2336*LSLBDD; Published: 4-Dec-2008; DatasheetVersion: Feb-2001; PackageVersion: revC, Oct-1998; PackageReference: SLB24A; Publisher: Altium Limited; PackageDescription: CSP, Plastic, Laminated, 3.5 x 4.5 x 1.0mm Body, 24 Lead, 0.5mm Pitch; RoHS: O; PinCount: 24; DigiKeyPartNumber: LMX2336LSLBX-ND; ComponentLink1Description: LMX2336L Datasheet; ComponentLink1URL: http://www.national.com/ds/LM/LMX2336L.pdf; ComponentLink2Description: LMX2336L Web Page; ComponentLink2URL: http://www.national.com/pf/LM/LMX2336L.html; ComponentLink3Description: SLB24A Package Page; ComponentLink3URL: http://www.national.com/packaging/folders/slb24a.html
footprint SLB24A (PQFN, 24-Leads (9x3 pads), Body 3.5x4.5mm, Pitch 0.5mm, NSC Recommended)
pins: 1 NC, 2 VP1 (power), 3 DO1 (out), 4 GND (power), 5 FIN1 (in), 6 ~{FIN}1 (in), 7 GND (power), 8 OSCIN (in), 9 NC, 10 OSCOUT (out), 11 FOLD (out), 12 CLOCK (in), 13 NC, 14 DATA (in), 15 LE (in), 16 GND (power), 17 ~{FIN}2 (in), 18 FIN2 (in), 19 GND (power), 20 DO2 (out), 21 NC, 22 VP2 (power), 23 VCC2 (power), 24 VCC1 (power)

## LMX2336LTM
designator U?
PLLatinum Low Power Dual Frequency Synthesizer for RF Personal Communications; PartNumber: LMX2336LTM; Manufacturer: National Semiconductor; CompType: Interface IC; PackageTopMarking: NSUZXYTT*LMX2336*LTMDD; Published: 4-Dec-2008; DatasheetVersion: Feb-2001; PackageVersion: revE, Mar-2003; PackageReference: MTC20; Publisher: Altium Limited; PackageDescription: Molded TSSOP, Jedec, 6.5 x 4.4 x 0.9mm body, 20 Lead, 0.65mm Pitch; RoHS: Y; PinCount: 20; DigiKeyPartNumber: LMX2336LTM-ND; Code_JEDEC: MO-153-AC; ComponentLink1Description: LMX2336L Datasheet; ComponentLink1URL: http://www.national.com/ds/LM/LMX2336L.pdf; ComponentLink2Description: LMX2336L Web Page; ComponentLink2URL: http://www.national.com/pf/LM/LMX2336L.html; ComponentLink3Description: MTC20 Package Page; ComponentLink3URL: http://www.national.com/packaging/folders/mtc20.html
footprint MTC20_N (TSOP, 20-Leads, Body 6.5x4.4mm, Pitch 0.65mm, IPC Medium Density)
footprint MTC20_L (TSOP, 20-Leads, Body 6.5x4.4mm, Pitch 0.65mm, IPC High Density)
footprint MTC20_M (TSOP, 20-Leads, Body 6.5x4.4mm, Pitch 0.65mm, IPC Low Density)
pins: 1 VCC1 (power), 2 VP1 (power), 3 DO1 (out), 4 GND (power), 5 FIN1 (in), 6 ~{FIN}1 (in), 7 GND (power), 8 OSCIN (in), 9 OSCOUT (out), 10 FOLD (out), 11 CLOCK (in), 12 DATA (in), 13 LE (in), 14 GND (power), 15 ~{FIN}2 (in), 16 FIN2 (in), 17 GND (power), 18 DO2 (out), 19 VP2 (power), 20 VCC2 (power)

## LMX2346SLBX
designator U?
2.0 GHz PLLatinum Frequency Synthesizer for RF Personal Communications; PartNumber: LMX2346SLBX; Manufacturer: National Semiconductor; CompType: Interface IC; PackageTopMarking: NSXYTT*X2346*SLBDD; Published: 4-Dec-2008; DatasheetVersion: Jun-2004; PackageVersion: revB, Sep-1998; PackageReference: SLB16A; Publisher: Altium Limited; PackageDescription: CSP, Plastic, Laminated, 3.5 x 3.5 x 1.0mm Body, 16 Lead, 0.5mm Pitch; RoHS: O; PinCount: 16; DigiKeyPartNumber: LMX2346SLBXTR-ND; Code_JEDEC: MO-208-CCE; ComponentLink1Description: LMX2346 Datasheet; ComponentLink1URL: http://www.national.com/ds/LM/LMX2346.pdf; ComponentLink2Description: LMX2346 Web Page; ComponentLink2URL: http://www.national.com/pf/LM/LMX2346.html; ComponentLink3Description: SLB16A Package Page; ComponentLink3URL: http://www.national.com/packaging/folders/slb16a.html
footprint SLB16A (PQFN, 16-Leads, Body 3.5x3.5mm, Pitch 0.5mm, NSC Recommended)
pins: 1 VP (power), 2 VCC (power), 3 CPO (out), 4 GND (power), 5 FINB (in), 6 FIN (in), 7 NC, 8 CLOCK (in), 9 DATA (in), 10 LE (in), 11 CE (in), 12 NC, 13 LD (out), 14 NC, 15 OSCIN (in), 16 NC

## LMX2346TM
designator U?
2.0 GHz PLLatinum Frequency Synthesizer for RF Personal Communications; PartNumber: LMX2346TM; Manufacturer: National Semiconductor; CompType: Interface IC; PackageTopMarking: NSUZXYTT*LMX2346*TMDD; Published: 4-Dec-2008; DatasheetVersion: Jun-2004; PackageVersion: revD, Jun-2003; PackageReference: MTC16; Publisher: Altium Limited; PackageDescription: Molded TSSOP, Jedec, 5 x 4.4 x 0.9mm Body, 16 Lead, 0.65mm Pitch; RoHS: Y; PinCount: 16; DigiKeyPartNumber: LMX2346TM-ND; Code_JEDEC: MO-153-AB; ComponentLink1Description: LMX2346 Datasheet; ComponentLink1URL: http://www.national.com/ds/LM/LMX2346.pdf; ComponentLink2Description: LMX2346 Web Page; ComponentLink2URL: http://www.national.com/pf/LM/LMX2346.html; ComponentLink3Description: MTC16 Package Page; ComponentLink3URL: http://www.national.com/packaging/folders/mtc16.html
footprint MTC16_N (TSOP, 16-Leads, Body 5x4.4mm, Pitch 0.65mm, IPC Medium Density)
footprint MTC16_L (TSOP, 16-Leads, Body 5x4.4mm, Pitch 0.65mm, IPC High Density)
footprint MTC16_M (TSOP, 16-Leads, Body 5x4.4mm, Pitch 0.65mm, IPC Low Density)
pins: 1 OSCIN (in), 2 NC, 3 VP (power), 4 VCC (power), 5 CPO (out), 6 GND (power), 7 FINB (in), 8 FIN (in), 9 CLOCK (in), 10 DATA (in), 11 LE (in), 12 CE (in), 13 NC, 14 LD (out), 15 NC, 16 NC

## LMX2347TM
designator U?
2.5 GHz PLLatinum Frequency Synthesizer for RF Personal Communications; PartNumber: LMX2347TM; Manufacturer: National Semiconductor; CompType: Interface IC; PackageTopMarking: NSUZXYTT*LMX2347*TMDD; Published: 4-Dec-2008; DatasheetVersion: Jun-2004; PackageVersion: revD, Jun-2003; PackageReference: MTC16; Publisher: Altium Limited; PackageDescription: Molded TSSOP, Jedec, 5 x 4.4 x 0.9mm Body, 16 Lead, 0.65mm Pitch; RoHS: Y; PinCount: 16; DigiKeyPartNumber: LMX2347TM-ND; Code_JEDEC: MO-153-AB; ComponentLink1Description: LMX2347 Datasheet; ComponentLink1URL: http://www.national.com/ds/LM/LMX2347.pdf; ComponentLink2Description: LMX2347 Web Page; ComponentLink2URL: http://www.national.com/pf/LM/LMX2347.html; ComponentLink3Description: MTC16 Package Page; ComponentLink3URL: http://www.national.com/packaging/folders/mtc16.html
footprint MTC16_N (TSOP, 16-Leads, Body 5x4.4mm, Pitch 0.65mm, IPC Medium Density)
footprint MTC16_L (TSOP, 16-Leads, Body 5x4.4mm, Pitch 0.65mm, IPC High Density)
footprint MTC16_M (TSOP, 16-Leads, Body 5x4.4mm, Pitch 0.65mm, IPC Low Density)
pins: 1 OSCIN (in), 2 NC, 3 VP (power), 4 VCC (power), 5 CPO (out), 6 GND (power), 7 FINB (in), 8 FIN (in), 9 CLOCK (in), 10 DATA (in), 11 LE (in), 12 CE (in), 13 NC, 14 LD (out), 15 NC, 16 NC

## LMX2350TM
designator U?
2.5 GHz/550 MHz PLLatinum Fractional N RF / Integer N IF Dual Low Power Frequency Synthesizer; PartNumber: LMX2350TM; Manufacturer: National Semiconductor; CompType: Interface IC; PackageTopMarking: NSUZXYTT*LMX2350*TMDD; Published: 4-Dec-2008; DatasheetVersion: Mar-2001; PackageVersion: revE, Mar-2003; PackageReference: MTC24; Publisher: Altium Limited; PackageDescription: Molded TSSOP, Jedec, 7.8 x 4.4 x 0.9mm Body, 24 Lead, 0.65mm Pitch; RoHS: Y; PinCount: 24; DigiKeyPartNumber: LMX2350TM-ND; Code_JEDEC: MO-153-AD; ComponentLink1Description: LMX2350 Datasheet; ComponentLink1URL: http://www.national.com/ds/LM/LMX2350.pdf; ComponentLink2Description: LMX2350 Web Page; ComponentLink2URL: http://www.national.com/pf/LM/LMX2350.html; ComponentLink3Description: MTC24 Package Page; ComponentLink3URL: http://www.national.com/packaging/folders/mtc24.html
footprint MTC24_N (TSOP, 24-Leads, Body 7.8x4.4mm, Pitch 0.65mm, IPC Medium Density)
footprint MTC24_L (TSOP, 24-Leads, Body 7.8x4.4mm, Pitch 0.65mm, IPC High Density)
footprint MTC24_M (TSOP, 24-Leads, Body 7.8x4.4mm, Pitch 0.65mm, IPC Low Density)
pins: 1 OUT0 (out), 2 VCCRF (power), 3 VPRF (power), 4 CPORF (out), 5 GND (power), 6 FIN RF (in), 7 ~{FIN RF} (in), 8 GND (power), 9 OSCX (in), 10 OSCIN (in), 11 FOLD (out), 12 RF_EN (in), 13 IF_EN (in), 14 CLOCK (in), 15 DATA (in), 16 LE (in), 17 GND (power), 18 ~{FIN IF} (in), 19 FIN IF (in), 20 GND (power), 21 CPOIF (out), 22 VPIF (power), 23 VCCIF (power), 24 OUT1 (out)

## LMX2352TM
designator U?
1.2 GHz/550 MHz PLLatinum Fractional N RF / Integer N IF Dual Low Power Frequency Synthesizer; PartNumber: LMX2352TM; Manufacturer: National Semiconductor; CompType: Interface IC; PackageTopMarking: NSUZXYTT*LMX2352*TMDD; Published: 4-Dec-2008; DatasheetVersion: Mar-2001; PackageVersion: revE, Mar-2003; PackageReference: MTC24; Publisher: Altium Limited; PackageDescription: Molded TSSOP, Jedec, 7.8 x 4.4 x 0.9mm Body, 24 Lead, 0.65mm Pitch; RoHS: O; PinCount: 24; DigiKeyPartNumber: LMX2352TM-ND; Code_JEDEC: MO-153-AD; ComponentLink1Description: LMX2352 Datasheet; ComponentLink1URL: http://www.national.com/ds/LM/LMX2352.pdf; ComponentLink2Description: LMX2352 Web Page; ComponentLink2URL: http://www.national.com/pf/LM/LMX2352.html; ComponentLink3Description: MTC24 Package Page; ComponentLink3URL: http://www.national.com/packaging/folders/mtc24.html
footprint MTC24_N (TSOP, 24-Leads, Body 7.8x4.4mm, Pitch 0.65mm, IPC Medium Density)
footprint MTC24_L (TSOP, 24-Leads, Body 7.8x4.4mm, Pitch 0.65mm, IPC High Density)
footprint MTC24_M (TSOP, 24-Leads, Body 7.8x4.4mm, Pitch 0.65mm, IPC Low Density)
pins: 1 OUT0 (out), 2 VCCRF (power), 3 VPRF (power), 4 CPORF (out), 5 GND (power), 6 FIN RF (in), 7 ~{FIN RF} (in), 8 GND (power), 9 OSCX (in), 10 OSCIN (in), 11 FOLD (out), 12 RF_EN (in), 13 IF_EN (in), 14 CLOCK (in), 15 DATA (in), 16 LE (in), 17 GND (power), 18 ~{FIN IF} (in), 19 FIN IF (in), 20 GND (power), 21 CPOIF (out), 22 VPIF (power), 23 VCCIF (power), 24 OUT1 (out)

## LMX2353TM
designator U?
PLLatinum Fractional N Single 2.5 GHz Frequency Synthesizer; PartNumber: LMX2353TM; Manufacturer: National Semiconductor; CompType: Interface IC; PackageTopMarking: NSUZXYTT*LMX2353*TMDD; Published: 4-Dec-2008; DatasheetVersion: Jan-2001; PackageVersion: revD, Jun-2003; PackageReference: MTC16; Publisher: Altium Limited; PackageDescription: Molded TSSOP, Jedec, 5 x 4.4 x 0.9mm Body, 16 Lead, 0.65mm Pitch; RoHS: Y; PinCount: 16; DigiKeyPartNumber: LMX2353TM-ND; Code_JEDEC: MO-153-AB; ComponentLink1Description: LMX2353 Datasheet; ComponentLink1URL: http://www.national.com/ds/LM/LMX2353.pdf; ComponentLink2Description: LMX2353 Web Page; ComponentLink2URL: http://www.national.com/pf/LM/LMX2353.html; ComponentLink3Description: MTC16 Package Page; ComponentLink3URL: http://www.national.com/packaging/folders/mtc16.html
footprint MTC16_N (TSOP, 16-Leads, Body 5x4.4mm, Pitch 0.65mm, IPC Medium Density)
footprint MTC16_L (TSOP, 16-Leads, Body 5x4.4mm, Pitch 0.65mm, IPC High Density)
footprint MTC16_M (TSOP, 16-Leads, Body 5x4.4mm, Pitch 0.65mm, IPC Low Density)
pins: 1 VP (power), 2 CPO (out), 3 GND (power), 4 FIN (in), 5 FINB (in), 6 GND (power), 7 OSCIN (in), 8 FOLD (out), 9 CE (in), 10 CLK (in), 11 DATA (in), 12 LE (in), 13 GND (power), 14 VCC (power), 15 OUT1 (out), 16 OUT0 (out)

## LMX2354SLBX
designator U?
2.5 GHz/550 MHz PLLatinum Fractional N RF / Integer N IF Dual Low Power Frequency Synthesizer; PartNumber: LMX2354SLBX; Manufacturer: National Semiconductor; CompType: Interface IC; PackageTopMarking: NSUZXYTT*LMX2354*SLBDD; Published: 4-Dec-2008; DatasheetVersion: Aug-2001; PackageVersion: revC, Oct-1998; PackageReference: SLB24A; Publisher: Altium Limited; PackageDescription: CSP, Plastic, Laminated, 3.5 x 4.5 x 1.0mm Body, 24 Lead, 0.5mm Pitch; RoHS: O; PinCount: 24; DigiKeyPartNumber: LMX2354SLBXTR-ND; ComponentLink1Description: LMX2354 Datasheet; ComponentLink1URL: http://www.national.com/ds/LM/LMX2354.pdf; ComponentLink2Description: LMX2354 Web Page; ComponentLink2URL: http://www.national.com/pf/LM/LMX2354.html; ComponentLink3Description: SLB24A Package Page; ComponentLink3URL: http://www.national.com/packaging/folders/slb24a.html
footprint SLB24A (PQFN, 24-Leads (9x3 pads), Body 3.5x4.5mm, Pitch 0.5mm, NSC Recommended)
pins: 1 VCCRF (power), 2 VPRF (power), 3 CPORF (out), 4 GND (power), 5 FIN RF (in), 6 ~{FIN RF} (in), 7 GND (power), 8 OSCRF (in), 9 OSCIF (in), 10 FOLD (out), 11 RF_EN (in), 12 IF_EN (in), 13 CLOCK (in), 14 DATA (in), 15 LE (in), 16 GND (power), 17 ~{FIN IF} (in), 18 FIN IF (in), 19 GND (power), 20 CPOIF (out), 21 VPIF (power), 22 VCCIF (power), 23 OUT1 (out), 24 OUT0 (out)

## LMX2354TM
designator U?
2.5 GHz/550 MHz PLLatinum Fractional N RF / Integer N IF Dual Low Power Frequency Synthesizer; PartNumber: LMX2354TM; Manufacturer: National Semiconductor; CompType: Interface IC; PackageTopMarking: NSUZXYTT*LMX2354*TMDD; Published: 4-Dec-2008; DatasheetVersion: Aug-2001; PackageVersion: revE, Mar-2003; PackageReference: MTC24; Publisher: Altium Limited; PackageDescription: Molded TSSOP, Jedec, 7.8 x 4.4 x 0.9mm Body, 24 Lead, 0.65mm Pitch; RoHS: O; PinCount: 24; DigiKeyPartNumber: LMX2354TM-ND; Code_JEDEC: MO-153-AD; ComponentLink1Description: LMX2354 Datasheet; ComponentLink1URL: http://www.national.com/ds/LM/LMX2354.pdf; ComponentLink2Description: LMX2354 Web Page; ComponentLink2URL: http://www.national.com/pf/LM/LMX2354.html; ComponentLink3Description: MTC24 Package Page; ComponentLink3URL: http://www.national.com/packaging/folders/mtc24.html
footprint MTC24_N (TSOP, 24-Leads, Body 7.8x4.4mm, Pitch 0.65mm, IPC Medium Density)
footprint MTC24_L (TSOP, 24-Leads, Body 7.8x4.4mm, Pitch 0.65mm, IPC High Density)
footprint MTC24_M (TSOP, 24-Leads, Body 7.8x4.4mm, Pitch 0.65mm, IPC Low Density)
pins: 1 OUT0 (out), 2 VCCRF (power), 3 VPRF (power), 4 CPORF (out), 5 GND (power), 6 FIN RF (in), 7 ~{FIN RF} (in), 8 GND (power), 9 OSCRF (in), 10 OSCIF (in), 11 FOLD (out), 12 RF_EN (in), 13 IF_EN (in), 14 CLOCK (in), 15 DATA (in), 16 LE (in), 17 GND (power), 18 ~{FIN IF} (in), 19 FIN IF (in), 20 GND (power), 21 CPOIF (out), 22 VPIF (power), 23 VCCIF (power), 24 OUT1 (out)

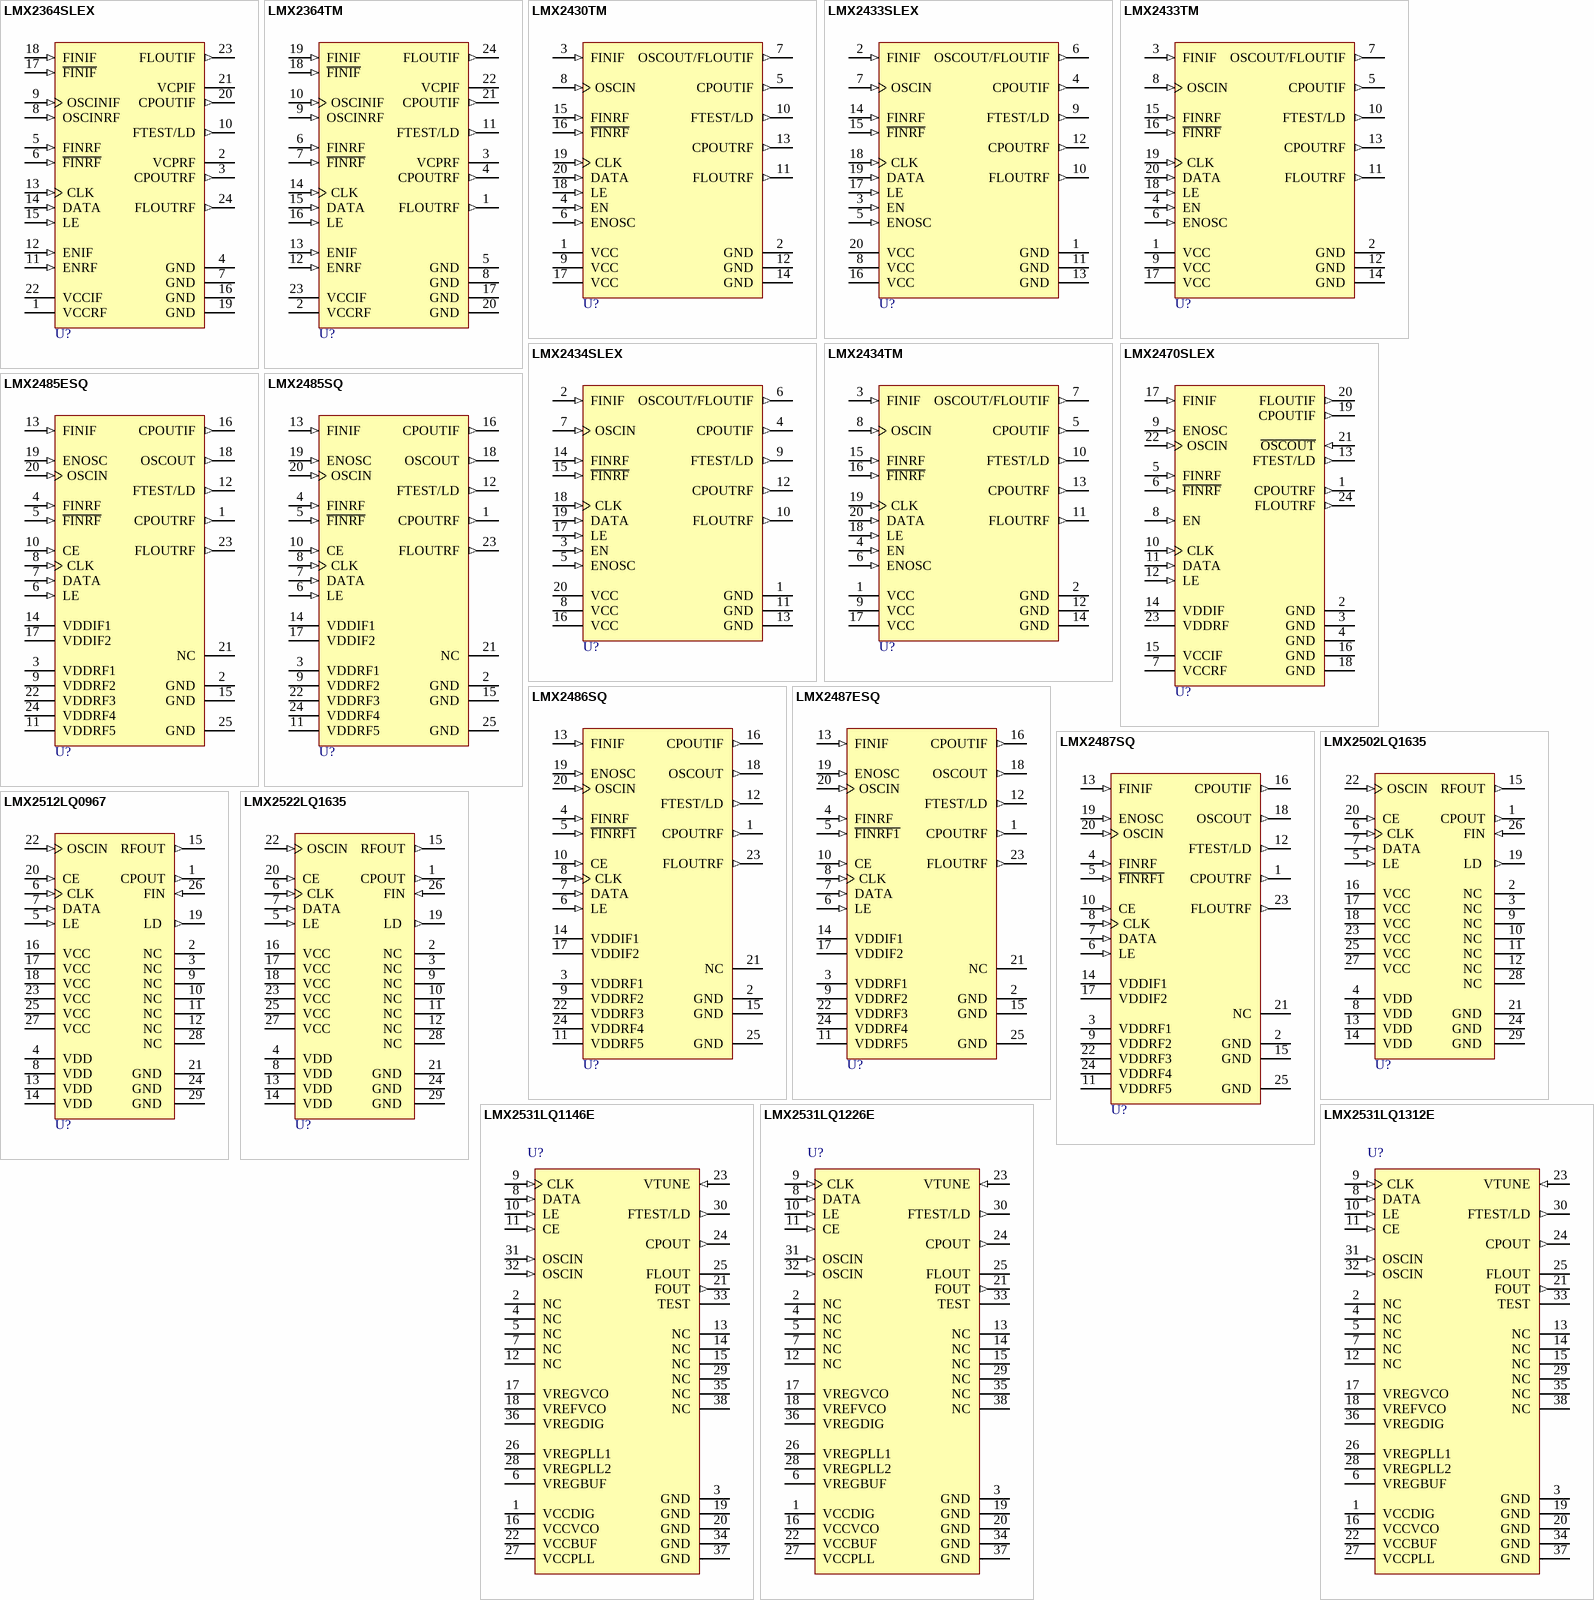
[diagram p34: symbols LMX2364SLEX to LMX2531LQ1312E]

## LMX2364SLEX
designator U?
2.6 GHz Fractional RF Frequency Synthesizer with 850 MHz Integer-N IF Frequency Synthesizer; PartNumber: LMX2364SLEX; Manufacturer: National Semiconductor; CompType: Interface IC; PackageTopMarking: NSXYTT*X2364*SLE; Published: 4-Dec-2008; DatasheetVersion: Jul-2003; PackageVersion: revA, Jun-2001; PackageReference: SLE24A; Publisher: Altium Limited; PackageDescription: Ultra TCSP, Plastic, Laminated, 3.5 x 4.5 x 0.6mm Body, 24 Lead, .5mm Pitch; RoHS: Y; PinCount: 24; DigiKeyPartNumber: LMX2364SLEXTR-ND; ComponentLink1Description: LMX2364 Datasheet; ComponentLink1URL: http://www.national.com/ds/LM/LMX2364.pdf; ComponentLink2Description: LMX2364 Web Page; ComponentLink2URL: http://www.national.com/pf/LM/LMX2364.html; ComponentLink3Description: SLE24A Package Page; ComponentLink3URL: http://www.national.com/packaging/folders/sle24a.html
footprint SLE24A (PQFN, 24-Leads (9x3 pads), Body 3.5x4.5mm, Pitch 0.5mm, NSC Recommended)
pins: 1 VCCRF (power), 2 VCPRF (power), 3 CPOUTRF (out), 4 GND (power), 5 FINRF (in), 6 ~{FINRF} (in), 7 GND (power), 8 OSCINRF (in), 9 OSCINIF (in), 10 FTEST/LD (out), 11 ENRF (in), 12 ENIF (in), 13 CLK (in), 14 DATA (in), 15 LE (in), 16 GND (power), 17 ~{FINIF} (in), 18 FINIF (in), 19 GND (power), 20 CPOUTIF (out), 21 VCPIF (power), 22 VCCIF (power), 23 FLOUTIF (out), 24 FLOUTRF (out)

## LMX2364TM
designator U?
2.6 GHz Fractional RF Frequency Synthesizer with 850 MHz Integer-N IF Frequency Synthesizer; PartNumber: LMX2364TM; Manufacturer: National Semiconductor; CompType: Interface IC; PackageTopMarking: NSUZXYTT*LMX2364TM; Published: 4-Dec-2008; DatasheetVersion: Jul-2003; PackageVersion: revE, Mar-2003; PackageReference: MTC24; Publisher: Altium Limited; PackageDescription: Molded TSSOP, Jedec, 7.8 x 4.4 x 0.9mm Body, 24 Lead, 0.65mm Pitch; RoHS: Y; PinCount: 24; DigiKeyPartNumber: LMX2364TM-ND; Code_JEDEC: MO-153-AD; ComponentLink1Description: LMX2364 Datasheet; ComponentLink1URL: http://www.national.com/ds/LM/LMX2364.pdf; ComponentLink2Description: LMX2364 Web Page; ComponentLink2URL: http://www.national.com/pf/LM/LMX2364.html; ComponentLink3Description: MTC24 Package Page; ComponentLink3URL: http://www.national.com/packaging/folders/mtc24.html
footprint MTC24_N (TSOP, 24-Leads, Body 7.8x4.4mm, Pitch 0.65mm, IPC Medium Density)
footprint MTC24_L (TSOP, 24-Leads, Body 7.8x4.4mm, Pitch 0.65mm, IPC High Density)
footprint MTC24_M (TSOP, 24-Leads, Body 7.8x4.4mm, Pitch 0.65mm, IPC Low Density)
pins: 1 FLOUTRF (out), 2 VCCRF (power), 3 VCPRF (power), 4 CPOUTRF (out), 5 GND (power), 6 FINRF (in), 7 ~{FINRF} (in), 8 GND (power), 9 OSCINRF (in), 10 OSCINIF (in), 11 FTEST/LD (out), 12 ENRF (in), 13 ENIF (in), 14 CLK (in), 15 DATA (in), 16 LE (in), 17 GND (power), 18 ~{FINIF} (in), 19 FINIF (in), 20 GND (power), 21 CPOUTIF (out), 22 VCPIF (power), 23 VCCIF (power), 24 FLOUTIF (out)